# EAGLE library part SAMACSYS_PARTS_AT42QT1010-TSHR (library Motor.Fader.all.Parts)
AT42QT1010-TSHR, Spread-Spectrum Charge-Transfer Touch Screen Controller, 14 bit, 6-Pin SOT-23 Source: Datasheet <http://www.atmel.com/images/atmel-9541-at42-qtouch-bsw-at42qt1010_datasheet.pdf>
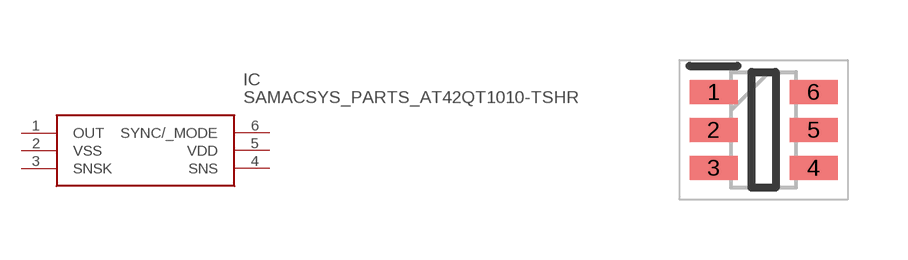
[diagram p0: symbol with the pads of SAMACSYS_PARTS_SOT95P280X145-6N; footprint SAMACSYS_PARTS_SOT95P280X145-6N]

Designator prefix IC

## SAMACSYS_PARTS_AT42QT1010-TSHR (DESCRIPTION: AT42QT1010-TSHR, Spread-Spectrum Charge-Transfer Touch Screen Controller, 14 bit, 6-Pin SOT-23; HEIGHT: 1.45mm; MANUFACTURER_NAME: Microchip; MANUFACTURER_PART_NUMBER: AT42QT1010-TSHR; MOUSER_PART_NUMBER: 556-AT42QT1010-TSHR; MOUSER_PRICE-STOCK: https://www.mouser.co.uk/ProductDetail/Microchip-Technology/AT42QT1010-TSHR?qs=xbJoyvfFV%2F%252BFK88JVR2efg%3D%3D)  [SAMACSYS_PARTS_SOT95P280X145-6N]
1  OUT
2  VSS
3  SNSK
4  SNS
5  VDD
6  SYNC/_MODE

## Footprint SAMACSYS_PARTS_SOT95P280X145-6N (pad centres in mm)
**6-Lead SOT-23 Package Outline and Recommended Land Pattern
smd 1.2 x 0.6: 1 -1.25,0.95; 2 -1.25,0; 3 -1.25,-0.95; 4 1.25,-0.95; 5 1.25,0; 6 1.25,0.95